# EAGLE library part PINHD-1X7 (library SaintGimp)
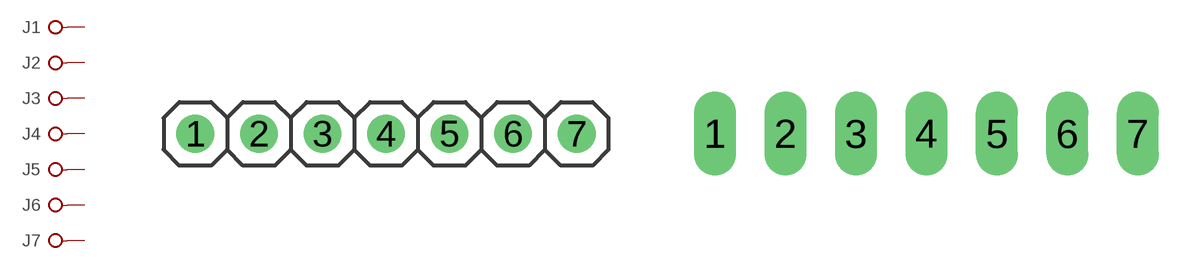
[diagram p5: symbol with the pads of 1X07; footprints 1X07, 1X07-BIG]

Designator prefix J; gates 1=TERMINAL 2=TERMINAL 3=TERMINAL 4=TERMINAL 5=TERMINAL 6=TERMINAL 7=TERMINAL

## PINHD-1X7  [1X07]
1  1:KL  pas
2  2:KL  pas
3  3:KL  pas
4  4:KL  pas
5  5:KL  pas
6  6:KL  pas
7  7:KL  pas

## PINHD-1X7BIG  [1X07-BIG]
Pads as for 1X07

## Footprint 1X07 (pad centres in mm)
drill 1: 1 -7.62,0; 2 -5.08,0; 3 -2.54,0; 4 0,0; 5 2.54,0; 6 5.08,0; 7 7.62,0

## Footprint 1X07-BIG (pad centres in mm)
drill 1 long: 1 -7.62,0; 2 -5.08,0; 3 -2.54,0; 4 0,0; 5 2.54,0; 6 5.08,0; 7 7.62,0